# EAGLE library part BLUEPILL_F103 (library lib_ysk)
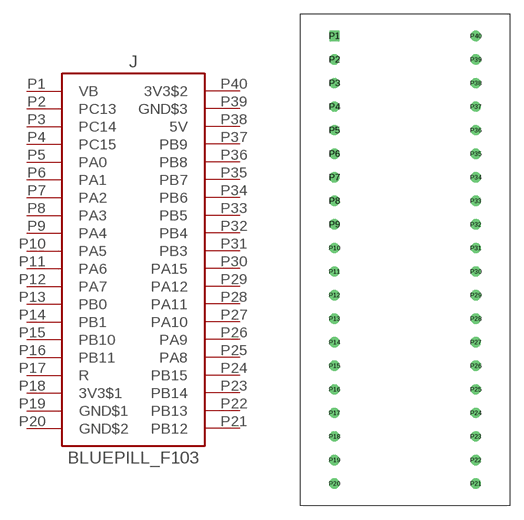
[diagram p11: symbol with the pads of BLUEPILL_F103; footprint BLUEPILL_F103]

Designator prefix J

## BLUEPILL_F103  [BLUEPILL_F103]
P1  VB
P2  PC13
P3  PC14
P4  PC15
P5  PA0
P6  PA1
P7  PA2
P8  PA3
P9  PA4
P10  PA5
P11  PA6
P12  PA7
P13  PB0
P14  PB1
P15  PB10
P16  PB11
P17  R
P18  3V3$1
P19  GND$1
P20  GND$2
P21  PB12
P22  PB13
P23  PB14
P24  PB15
P25  PA8
P26  PA9
P27  PA10
P28  PA11
P29  PA12
P30  PA15
P31  PB3
P32  PB4
P33  PB5
P34  PB6
P35  PB7
P36  PB8
P37  PB9
P38  5V
P39  GND$3
P40  3V3$2

## Footprint BLUEPILL_F103 (pad centres in mm)
drill 0.6 square: P1 -7.62,24.13
drill 0.6: P2 -7.62,21.59; P3 -7.62,19.05; P4 -7.62,16.51; P5 -7.62,13.97; P6 -7.62,11.43; P7 -7.62,8.89; P8 -7.62,6.35; P9 -7.62,3.81; P10 -7.62,1.27; P11 -7.62,-1.27; P12 -7.62,-3.81; P13 -7.62,-6.35; P14 -7.62,-8.89; P15 -7.62,-11.43; P16 -7.62,-13.97; P17 -7.62,-16.51; P18 -7.62,-19.05; P19 -7.62,-21.59; P20 -7.62,-24.13; P21 7.62,-24.13; P22 7.62,-21.59; P23 7.62,-19.05; P24 7.62,-16.51; P25 7.62,-13.97; P26 7.62,-11.43; P27 7.62,-8.89; P28 7.62,-6.35; P29 7.62,-3.81; P30 7.62,-1.27; P31 7.62,1.27; P32 7.62,3.81; P33 7.62,6.35; P34 7.62,8.89; P35 7.62,11.43; P36 7.62,13.97; P37 7.62,16.51; P38 7.62,19.05; P39 7.62,21.59; P40 7.62,24.13